# Altium footprint library stm32devpcb.PcbLib: 21 footprints (part 2 of 2)
Each footprint in its own frame and in the unit in brackets; x right, y up, seen from the top. Pads: shape width x height; smd on the part's side, far side on the other; paste and mask are expansions set on the pad; w line width, h text height; cw(c..) or ccw(c..) is an arc to the next point about the centre after c.
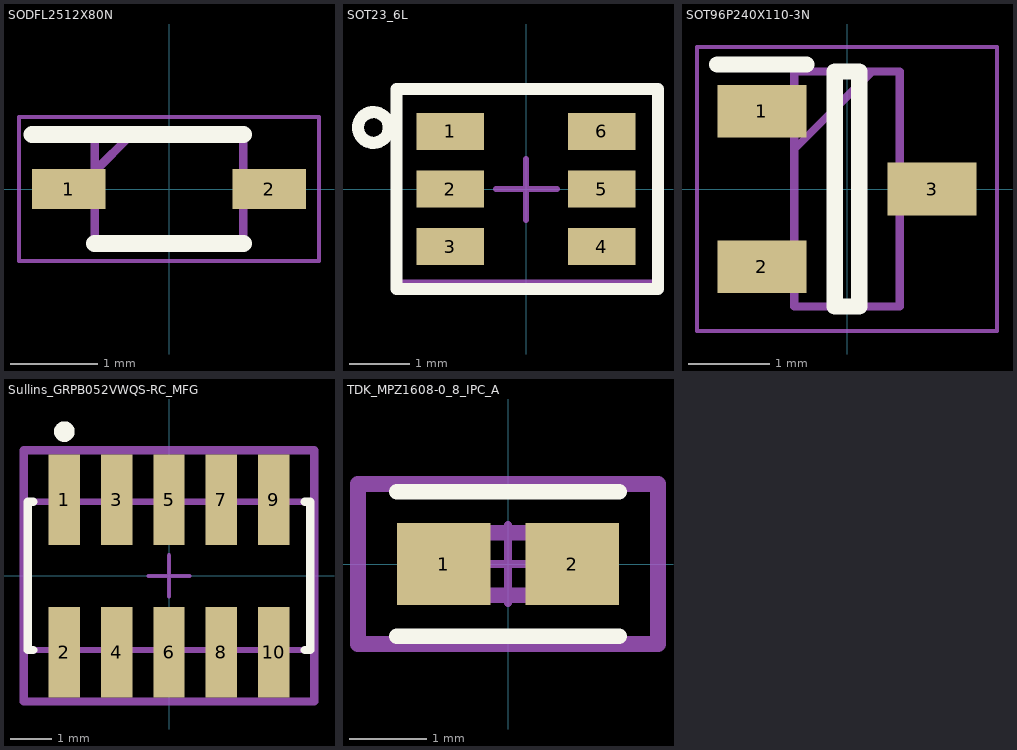
[diagram p1: the footprints below, top view; thin cyan lines are the x and y axes]

## SODFL2512X80N [mm]
pads (2):
  rect 0.84x0.46 smd: 1(-1.15,0) 2(1.15,0)
Top Overlay:
  lines w0.2: -1.57,0.625 0.85,0.625 ; -0.85,-0.625 0.85,-0.625
Mechanical 13:
  lines w0.1: -0.85,0.205 -0.43,0.625 ; -0.85,-0.625 0.85,-0.625 0.85,0.625 -0.85,0.625 -0.85,-0.625
Mechanical 15:
  lines w0.05: -1.72,-0.825 1.72,-0.825 1.72,0.825 -1.72,0.825 -1.72,-0.825
3D body "PMEG4005CEJX.stp": height 0.8, standoff 0, extent -1.25,-0.625 1.25,0.625

## SOT23_6L [mil] "SOT23_6L, 6-Leads, Body 3.60x2.9mm, Pitch 0.95mm"
height 45.67
pads (6):
  rect 44x24 smd: 1(-49.21,37.4) 2(-49.21,0) 3(-49.21,-37.4) 4(49.21,-37.4) 5(49.21,0) 6(49.21,37.4)
Top Overlay:
  circle w7.87: c-99.21,40 r10
  lines w7.87: -84.21,-65 85.79,-65 85.79,65 -84.21,65 -84.21,-65
Mechanical 15:
  lines w3.94: -84.21,-60.98 -84.21,65 ; -19.37,0 20,0 ; 0,-20 0,19.37 ; 85.79,-60.98 85.79,65
  lines w4: -84.21,-60.98 85.79,-60.98 ; -84.21,65 85.79,65
3D body "WE-TVS_Standard_SOT23-6L_STD.stp": height 43.7, standoff -1.97, extent -55.11,-57.09 55.12,57.09

## SOT96P240X110-3N [mm]
pads (3):
  rect 1.1x0.65 smd: 1(-1.05,0.96) 2(-1.05,-0.96) 3(1.05,0)
Top Overlay:
  lines w0.2: -1.6,1.535 -0.5,1.535 ; -0.15,-1.45 0.15,-1.45 0.15,1.45 -0.15,1.45 -0.15,-1.45
Mechanical 13:
  lines w0.1: -0.65,0.49 0.31,1.45 ; -0.65,-1.45 0.65,-1.45 0.65,1.45 -0.65,1.45 -0.65,-1.45
Mechanical 15:
  lines w0.05: -1.85,-1.75 1.85,-1.75 1.85,1.75 -1.85,1.75 -1.85,-1.75
3D body "DMP3130LQ-7.stp": height 1.1, standoff 0, extent -1.2,-1.45 1.2,1.45

## Sullins_GRPB052VWQS-RC_MFG [mm]
pads (10):
  rect 0.76x2.2 smd paste+0 mask+0: 1(-2.54,1.85) 2(-2.54,-1.85) 3(-1.27,1.85) 4(-1.27,-1.85) 5(0,1.85) 6(0,-1.85) 7(1.27,1.85) 8(1.27,-1.85) 9(2.54,1.85) 10(2.54,-1.85)
Top Overlay:
  circle w0.25: c-2.54,3.5 r0.125
  lines w0.2: -3.295,-1.8 -3.425,-1.8 -3.425,1.8 -3.295,1.8 ; 3.295,-1.8 3.425,-1.8 3.425,1.8 3.295,1.8
Mechanical 10:
  lines w0.2: -3.525,-3.05 3.525,-3.05 3.525,3.05 -3.525,3.05 -3.525,-3.05
Mechanical 12:
  lines w0.15: -3.425,-1.8 3.425,-1.8 3.425,1.8 -3.425,1.8 -3.425,-1.8
Mechanical 15:
  lines w0.1: -0.5,0 0.5,0 ; 0,-0.5 0,0.5
  lines w0.2: -3.525,-3.05 3.525,-3.05 3.525,3.05 -3.525,3.05 -3.525,-3.05
3D body "Conn_Sullins_GRPB052VWQS-RC_eec.STEP": height 0.25, standoff 0, extent -3.525,-3.05 3.525,3.05

## TDK_MPZ1608-0_8_IPC_A [mm]
pads (2):
  rect 1.206x1.058 smd paste+0 mask+0: 1(-0.826,0) 2(0.826,0)
Top Overlay:
  lines w0.2: -1.429,-0.929 1.429,-0.929 ; -1.429,0.929 1.429,0.929
Mechanical 10:
  lines w0.2: -1.929,-1.029 -1.929,1.029 1.929,1.029 1.929,-1.029 -1.929,-1.029
Mechanical 12:
  lines w0.2: -0.8,-0.4 -0.8,0.4 0.8,0.4 0.8,-0.4 -0.8,-0.4
Mechanical 15:
  lines w0.1: -0.5,0 0.5,0 ; 0,-0.5 0,0.5
  lines w0.2: -1.929,-1.029 -1.929,1.029 1.929,1.029 1.929,-1.029 -1.929,-1.029
3D body "FBead_TDK_MPZ1608Y101BTA00_eec.STEP": height 0.25, standoff 0, extent -1.929,-1.029 1.929,1.029